# Altium footprint library AP7347DQ-33W5-7.PcbLib: 3 footprints
Each footprint in its own frame and in the unit in brackets; x right, y up, seen from the top. Pads: shape width x height; smd on the part's side, far side on the other; paste and mask are expansions set on the pad; w line width, h text height; cw(c..) or ccw(c..) is an arc to the next point about the centre after c.
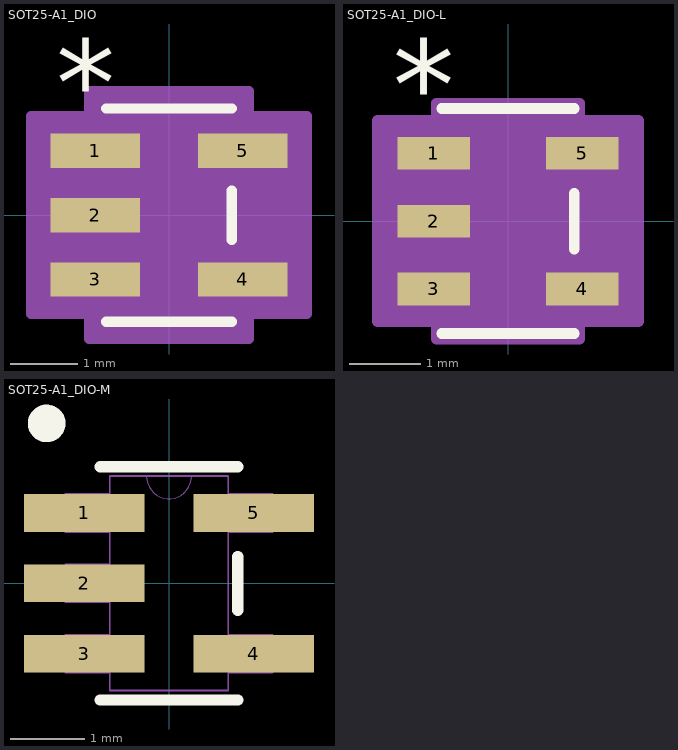
[diagram p0: the footprints below, top view; thin cyan lines are the x and y axes]

## SOT25-A1_DIO [mil]
pads (5):
  rect 52x20 smd paste+0 mask+0: 1(-43,37.4) 2(-43,0) 3(-43,-37.4) 4(43,-37.4) 5(43,37.4)
Top Overlay:
  lines w6: -36.5,-62 36.5,-62 ; -36.5,62 36.5,62 ; 36.5,-14.3 36.5,14.3
  text "*" at -65.5,52.4 h50
Mechanical 13:
  lines w0: -12,57 ccw(c0,57) 12,57
  lines w1: -55,-47.4 -31.5,-47.4 -31.5,-27.4 -55,-27.4 -55,-47.4 ; -55,-10 -31.5,-10 -31.5,10 -55,10 -55,-10 ; -55,27.4 -31.5,27.4 -31.5,47.4 -55,47.4 -55,27.4 ; -31.5,-57 -31.5,57 31.5,57 31.5,-57 -31.5,-57 ; 31.5,-47.4 55,-47.4 55,-27.4 31.5,-27.4 31.5,-47.4 ; 31.5,27.4 55,27.4 55,47.4 31.5,47.4 31.5,27.4
  text "*" at -34,9.4 h50
Mechanical 15:
  region: 46.5,-72 -46.5,-72 -46.5,-57.4 -80,-57.4 -80,57.4 -46.5,57.4 -46.5,72 46.5,72 46.5,57.4 80,57.4 80,-57.4 46.5,-57.4
  lines w6: -80,-57.4 -80,57.4 -46.5,57.4 -46.5,72 46.5,72 46.5,57.4 80,57.4 80,-57.4 46.5,-57.4 46.5,-72 -46.5,-72 -46.5,-57.4 -80,-57.4
3D body "SOT25-A1_DIO.step": height 57.09, standoff 0, extent -55,-57.01 55,57.01

## SOT25-A1_DIO-L [mil]
pads (5):
  rect 40x18 smd paste+0 mask+0: 1(-41,37.4) 2(-41,0) 3(-41,-37.4) 4(41,-37.4) 5(41,37.4)
Top Overlay:
  lines w6: -36.5,-62 36.5,-62 ; -36.5,62 36.5,62 ; 36.5,-15.3 36.5,15.3
  text "*" at -63.5,50.4 h50
Mechanical 13:
  lines w0: -12,57 ccw(c0,57) 12,57
  lines w1: -55,-47.4 -31.5,-47.4 -31.5,-27.4 -55,-27.4 -55,-47.4 ; -55,-10 -31.5,-10 -31.5,10 -55,10 -55,-10 ; -55,27.4 -31.5,27.4 -31.5,47.4 -55,47.4 -55,27.4 ; -31.5,-57 -31.5,57 31.5,57 31.5,-57 -31.5,-57 ; 31.5,-47.4 55,-47.4 55,-27.4 31.5,-27.4 31.5,-47.4 ; 31.5,27.4 55,27.4 55,47.4 31.5,47.4 31.5,27.4
  text "*" at -34,7.4 h50
Mechanical 15:
  region: 39.5,-65 -39.5,-65 -39.5,-55.4 -72,-55.4 -72,55.4 -39.5,55.4 -39.5,65 39.5,65 39.5,55.4 72,55.4 72,-55.4 39.5,-55.4
  lines w6: -72,-55.4 -72,55.4 -39.5,55.4 -39.5,65 39.5,65 39.5,55.4 72,55.4 72,-55.4 39.5,-55.4 39.5,-65 -39.5,-65 -39.5,-55.4 -72,-55.4
3D body "SOT25-A1_DIO.step": height 57.09, standoff 0, extent -55,-57.01 55,57.01

## SOT25-A1_DIO-M [mil]
pads (5):
  rect 64x20 smd: 1(-45,37.4) 2(-45,0) 3(-45,-37.4) 4(45,-37.4) 5(45,37.4)
Top Overlay:
  circle w10: c-65,85 r5
  lines w6: -36.5,-62 36.5,-62 ; -36.5,62 36.5,62 ; 36.5,-14.3 36.5,14.3
Mechanical 13:
  lines w0: -12,57 ccw(c0,57) 12,57
  lines w1: -55,-47.4 -55,-27.4 -31.5,-27.4 -31.5,-47.4 -55,-47.4 ; -55,-10 -55,10 -31.5,10 -31.5,-10 -55,-10 ; -55,27.4 -55,47.4 -31.5,47.4 -31.5,27.4 -55,27.4 ; -31.5,-57 31.5,-57 31.5,57 -31.5,57 -31.5,-57 ; 31.5,-47.4 31.5,-27.4 55,-27.4 55,-47.4 31.5,-47.4 ; 31.5,27.4 31.5,47.4 55,47.4 55,27.4 31.5,27.4
3D body "SOT25-A1_DIO.step": height 57.09, standoff 0, extent -55,-57.01 55,57.01